# EAGLE library part OPA2211AIDDA (library texas-instruments-jqi)
OPA2211, dual precision op-amp, 45 MHz GBW
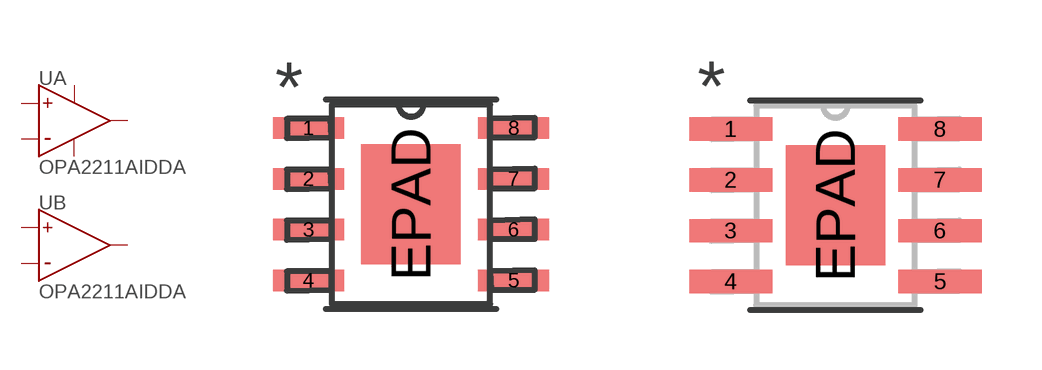
[diagram p4: symbol with the pads of DDA8_3X2P49; footprints DDA8_3X2P49, DDA8_3X2P49-M]

Designator prefix U; gates A=OPAMP B=OPAMP C=OPAMP-SUPPLY

## OPA2211AIDDA (MANUFACTURER_PART_NUMBER: OPA2211AIDDA; VENDOR: Texas Instruments)  [DDA8_3X2P49]
1  A:OUTPUT  out
2  A:-  in
3  A:+  in
4  C:V-  pwr
5  B:+  in
6  B:-  in
7  B:OUTPUT  out
8  C:V+  pwr
EPAD  C:V-  pwr

## OPA2211AIDDADDA8_3X2P49-M (MANUFACTURER_PART_NUMBER: OPA2211AIDDA; VENDOR: Texas Instruments)  [DDA8_3X2P49-M]
Pads as for DDA8_3X2P49

## OPA2211AIDDADDA8_3X2P49-L (MANUFACTURER_PART_NUMBER: OPA2211AIDDA; VENDOR: Texas Instruments)  [DDA8_3X2P49-L]
Pads as for DDA8_3X2P49

## Footprint DDA8_3X2P49 (pad centres in mm)
smd 1.778 x 0.533: 1 -2.565,1.905; 2 -2.565,0.635; 3 -2.565,-0.635; 4 -2.565,-1.905; 5 2.565,-1.905; 6 2.565,-0.635; 7 2.565,0.635; 8 2.565,1.905
smd 2.489 x 2.997: EPAD 0,0

## Footprint DDA8_3X2P49-M (pad centres in mm)
smd 2.083 x 0.584: 1 -2.616,1.905; 2 -2.616,0.635; 3 -2.616,-0.635; 4 -2.616,-1.905; 5 2.616,-1.905; 6 2.616,-0.635; 7 2.616,0.635; 8 2.616,1.905
smd 2.489 x 2.997: EPAD 0,0

## Footprint DDA8_3X2P49-L (pad centres in mm)
smd 1.473 x 0.483: 1 -2.515,1.905; 2 -2.515,0.635; 3 -2.515,-0.635; 4 -2.515,-1.905; 5 2.515,-1.905; 6 2.515,-0.635; 7 2.515,0.635; 8 2.515,1.905
smd 2.489 x 2.997: EPAD 0,0